# Altium schematic symbol library TRANSISTOR.SchLib: 15 symbols
Pins are listed as number, name and electrical type; pins without a type are passive.

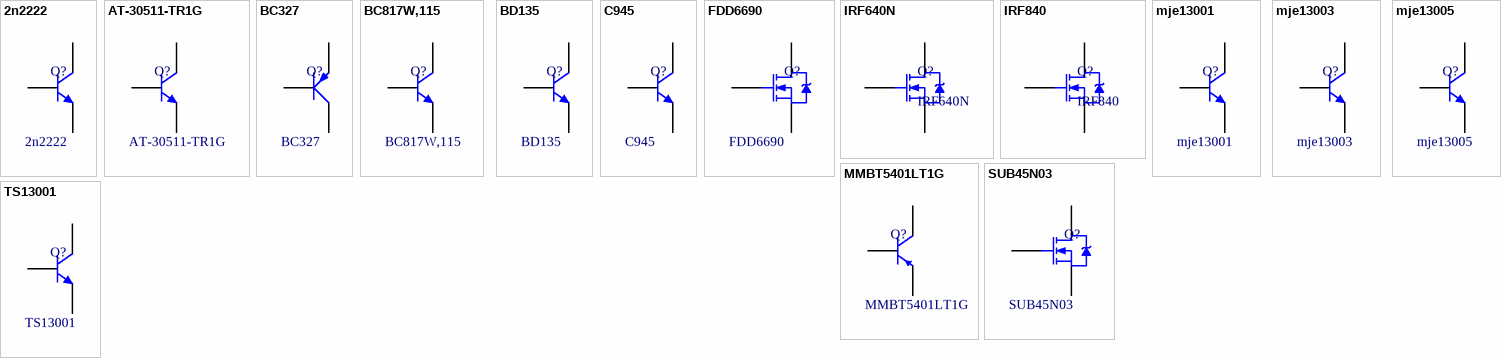
[diagram p0: symbols 2n2222 to TS13001]

## 2n2222
designator Q?
VALE: 2n2222
footprint TO92
footprint TO18
pins: 1 B, 2 C, 3 E

## AT-30511-TR1G
designator Q?
FRQ: 30GHz; VALE: AT-30511-TR1G
footprint SOT-143
pins: 1 C, 2 B, 3 E

## BC327
designator Q?
VALE: BC327
footprint TO92
pins: 1 E, 2 C, 3 B

## BC817W,115
designator Q?
VALE: BC817W,115
footprint SOT23-3
pins: 1 C, 2 B, 3 E

## BD135
designator Q?
VALE: BD135
footprint TO126
pins: 1 E, 2 C, 3 B

## C945
designator Q?
VALE: C945
footprint TO92
footprint SOT23-3
pins: 1 C, 2 B, 3 E

## FDD6690
designator Q?
VALUE: FDD6690
footprint TO252 (TO-252)
pins: 1 G, 2 S, 3 D

## IRF640N
designator Q?
Valu: IRF640N
footprint TO220
pins: 1 G, 2 D, 3 S

## IRF840
designator Q?
Valu: IRF840
footprint TO220
pins: 1 G, 2 D, 3 S

## mje13001
designator Q?
VALE: mje13001
footprint TO92
pins: 1 C, 2 E, 3 B

## mje13003
designator Q?
VALE: mje13003
footprint TO126
pins: 1 B, 2 C, 3 E

## mje13005
designator Q?
VALE: mje13005
footprint TO220
pins: 1 B, 2 C, 3 E

## MMBT5401LT1G
designator Q?
VALE: MMBT5401LT1G
footprint SOT23-3
pins: 1 C, 2 B, 3 E

## SUB45N03
designator Q?
VALUE: SUB45N03
footprint TO252 (TO-252)
pins: 1 G, 2 S, 3 D

## TS13001
designator Q?
VALE: TS13001
footprint TO92
pins: 1 C, 2 B, 3 E